# EAGLE library part ESP32_S3_SUPERMINI (library ESP32_S3_super_mini)
ESP32_S3_supermini
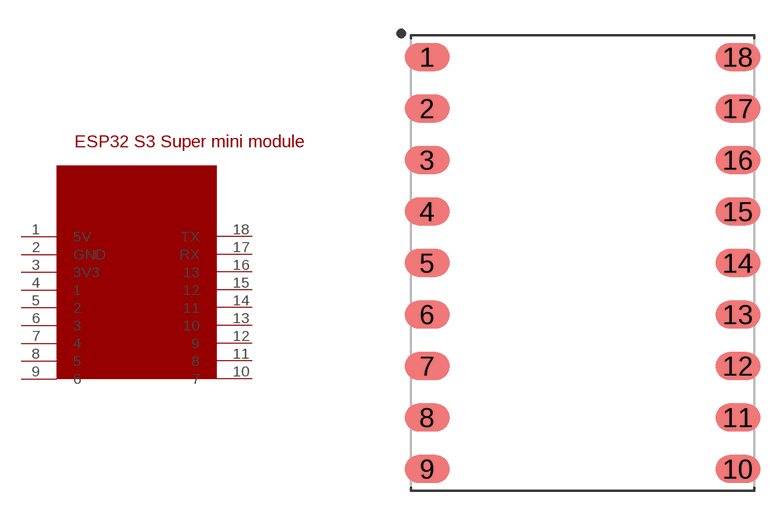
[diagram p0: symbol with the pads of SON270P1795X2385X160-18N; footprint SON270P1795X2385X160-18N]

Designator prefix -

## ESP32_S3_SUPERMINI  [SON270P1795X2385X160-18N]
1  5V
2  GND
3  3V3
4  1
5  2
6  3
7  4
8  5
9  6
10  7
11  8
12  9
13  10
14  11
15  12
16  13
17  RX
18  TX

## Footprint SON270P1795X2385X160-18N (pad centres in mm)
18-SON (DFN), 2.70 mm pitch, 23.85 X 17.95 X 1.60 mm body 18-pin SON (DFN) package with 2.70 mm pitch with body size 23.85 X 17.95 X 1.60 mm
smd 2.36 x 1.47: 1 -8.145,10.8; 2 -8.145,8.1; 3 -8.145,5.4; 4 -8.145,2.7; 5 -8.145,0; 6 -8.145,-2.7; 7 -8.145,-5.4; 8 -8.145,-8.1; 9 -8.145,-10.8; 10 8.145,-10.8; 11 8.145,-8.1; 12 8.145,-5.4; 13 8.145,-2.7; 14 8.145,0; 15 8.145,2.7; 16 8.145,5.4; 17 8.145,8.1; 18 8.145,10.8